# Altium schematic symbol library pico-clasp-5.SchLib: 1 symbol
Pins are listed as number, name and electrical type; pins without a type are passive.

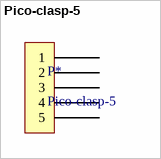
[diagram p0: symbol Pico-clasp-5]

## Pico-clasp-5
designator P*
5 pins
footprint 5 pins pico-clasp
pins: 1, 1 2, 3, 4, 5